# EAGLE library part SST25VF512A (library imported-parts)
SST25VF512A 512Kbit SPI Serial Flash http://uk.farnell.com/silicon-storage-technology/sst25vf512a-33-4c-sae/memory-flash-512mbit-spi-8soic/dp/1829959 Datasheet: http://www.sst.com/dotAsset/40506.pdf
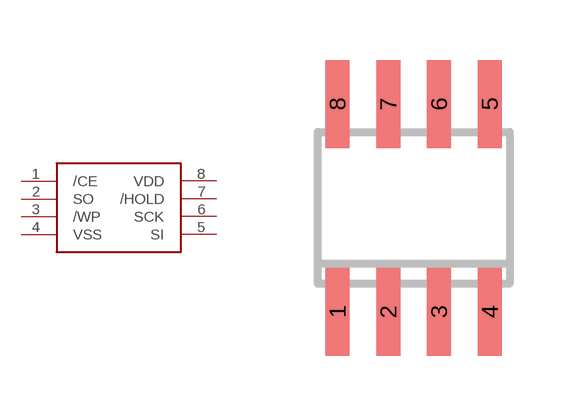
[diagram p8: symbol with the pads of SO8; footprint SO8]

Designator prefix -

## SST25VF512A  [SO8]
1  /CE
2  SO
3  /WP
4  VSS
5  SI
6  SCK
7  /HOLD
8  VDD

## Footprint SO8 (pad centres in mm)
SMALL OUTLINE INTEGRATED CIRCUIT
smd 0.6 x 2.2: 1 -1.905,-2.6; 2 -0.635,-2.6; 3 0.635,-2.6; 4 1.905,-2.6; 5 1.905,2.6; 6 0.635,2.6; 7 -0.635,2.6; 8 -1.905,2.6